# Altium footprint library DO-218.PcbLib: 1 footprints
Each footprint in its own frame and in the unit in brackets; x right, y up, seen from the top. Pads: shape width x height; smd on the part's side, far side on the other; paste and mask are expansions set on the pad; w line width, h text height; cw(c..) or ccw(c..) is an arc to the next point about the centre after c.
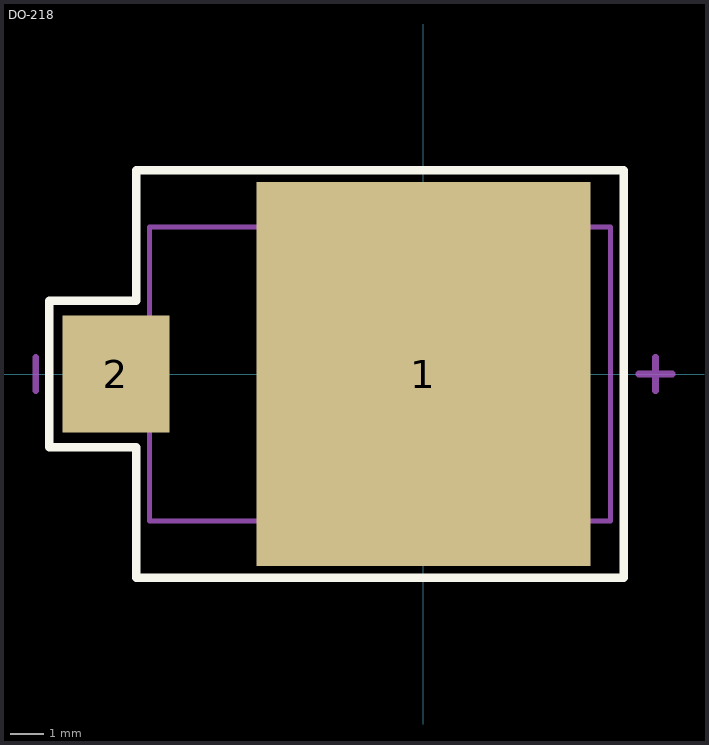
[diagram p0: the footprint, top view; thin cyan lines are the x and y axes]

## DO-218 [mm] "=DO-218AB"
pads (2):
  rect 10x11.5 smd: 1(0,0)
  rect 3.2x3.5 smd: 2(-9.2,0)
Top Overlay:
  lines w0.254: -11.2,-2.2 -11.2,2.2 -8.6,2.2 -8.6,6.1 6,6.1 6,-6.1 -8.6,-6.1 -8.6,-2.2 -11.2,-2.2
Mechanical 13:
  lines w0.152: -8.2,-4.4 -8.2,4.4 5.6,4.4 5.6,-4.4 -8.2,-4.4
Mechanical 15:
  lines w0.203: -11.6,-0.5 -11.6,0.5 ; 6.45,0 7.45,0 ; 6.95,-0.5 6.95,0.5
3D body: height 5, standoff 0, extent -9.8,-5 5.629,5